# Altium schematic symbol library SamacSys.SchLib: 79 symbols
Pins are listed as number, name and electrical type; pins without a type are passive.

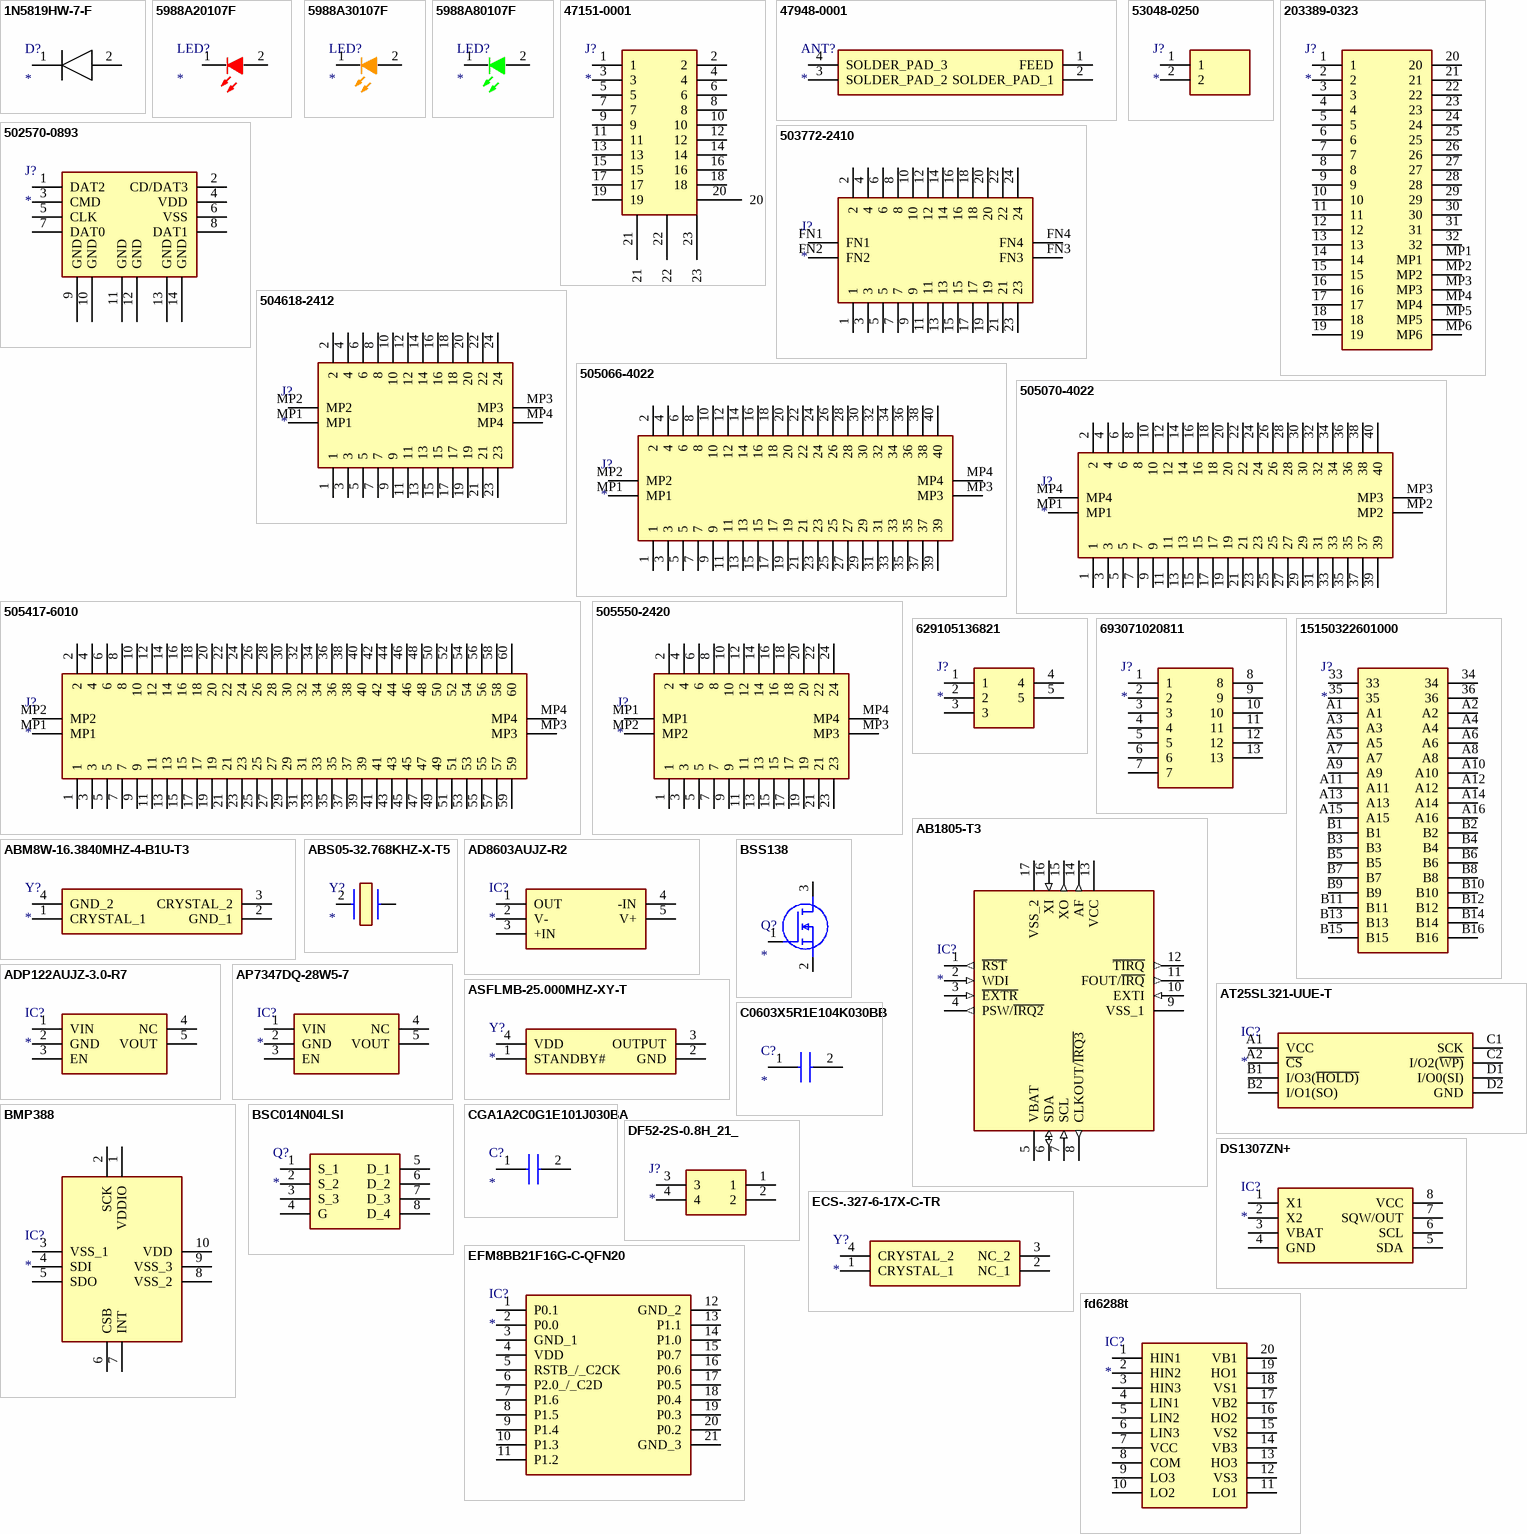
[diagram p0: symbols 1N5819HW-7-F to fd6288t]

## 1N5819HW-7-F
designator D?
Diode; Manufacturer_Name: Diodes Inc.; Manufacturer_Part_Number: 1N5819HW-7-F; Datasheet Link: https://componentsearchengine.com//1N5819HW-7-F.pdf; Height: 1.45mm; Mouser2 Part Number: 621-1N5819HW-F; Mouser2 Price/Stock: https://www.mouser.com/Search/Refine.aspx?Keyword=621-1N5819HW-F
footprint SOD3716X145N
pins: 1 K, 2 A

## 5988A20107F
designator LED?
LED; Manufacturer_Name: Dialight; Manufacturer_Part_Number: 5988A20107F; Datasheet Link: https://media.digikey.com/pdf/Data%20Sheets/Dialight%20PDFs/5988Ax010xF_Dwg.pdf; Height: 0.4mm; Mouser Part Number: 645-5988A20107F; Mouser Price/Stock: https://www.mouser.co.uk/ProductDetail/Dialight/5988A20107F?qs=7MVldsJ5Uax6FH5fsviNOw%3D%3D; Arrow Part Number: 5988A20107F; Arrow Price/Stock: https://www.arrow.com/en/products/5988a20107f/dialight
footprint 5988A20107F
pins: 1 K, 2 A

## 5988A30107F
designator LED?
LED; Manufacturer_Name: Dialight; Manufacturer_Part_Number: 5988A30107F; Datasheet Link: https://media.digikey.com/pdf/Data%20Sheets/Dialight%20PDFs/5988Ax010xF_Dwg.pdf; Height: 0.5mm; Mouser Part Number: 645-5988A30107F; Mouser Price/Stock: https://www.mouser.co.uk/ProductDetail/Dialight/5988A30107F?qs=7MVldsJ5UazU%2Fjc1iRSGcA%3D%3D; Arrow Part Number: 5988A30107F; Arrow Price/Stock: https://www.arrow.com/en/products/5988a30107f/dialight
footprint 5988A30107F
pins: 1 K, 2 A

## 5988A80107F
designator LED?
LED; Manufacturer_Name: Dialight; Manufacturer_Part_Number: 5988A80107F; Datasheet Link: https://media.digikey.com/pdf/Data%20Sheets/Dialight%20PDFs/5988Ax010xF_Dwg.pdf; Height: 0.4mm; Arrow Part Number: 5988A80107F; Arrow Price/Stock: https://www.arrow.com/en/products/5988a80107f/dialight
footprint 5988A80107F
pins: 1 K, 2 A

## 47151-0001
designator J?
Connector; Manufacturer_Name: Molex; Manufacturer_Part_Number: 47151-0001; Datasheet Link: https://componentsearchengine.com/Datasheets/1/47151-0001.pdf; Mouser Part Number: 538-47151-0001; Mouser Price/Stock: https://www.mouser.com/Search/Refine.aspx?Keyword=538-47151-0001
footprint 47151-0001
pins: 1, 2, 3, 4, 5, 6, 7, 8, 9, 10, 11, 12, 13, 14, 15, 16, 17, 18, 19, 20, 21, 22, 23

## 47948-0001
designator ANT?
Antenna; Manufacturer_Name: Molex; Manufacturer_Part_Number: 47948-0001; Datasheet Link: https://componentsearchengine.com//47948-0001.pdf; Height: 4mm; Mouser2 Part Number: 538-47948-0001; Mouser2 Price/Stock: https://www.mouser.com/Search/Refine.aspx?Keyword=538-47948-0001
footprint 479480001
pins: 1 FEED, 2 SOLDER_PAD_1, 3 SOLDER_PAD_2, 4 SOLDER_PAD_3

## 53048-0250
designator J?
Connector; Manufacturer_Name: Molex; Manufacturer_Part_Number: 53048-0250; Datasheet Link: https://www.molex.com/pdm_docs/sd/530480250_sd.pdf; Height: 3.5mm; Mouser Part Number: 538-53048-0250; Mouser Price/Stock: https://www.mouser.co.uk/ProductDetail/Molex/53048-0250?qs=0lSvoLzn4L%252BVLMv0bWniHQ%3D%3D
footprint 530480250
pins: 1, 2

## 203389-0323
designator J?
Connector; Manufacturer_Name: Molex; Manufacturer_Part_Number: 203389-0323; Datasheet Link: https://www.molex.com/pdm_docs/sd/2033890323_sd.pdf; Height: 0.68mm
footprint 2033890323
pins: 1, 2, 3, 4, 5, 6, 7, 8, 9, 10, 11, 12, 13, 14, 15, 16, 17, 18, 19, 20, 21, 22, 23, 24, 25, 26, 27, 28, 29, 30, 31, 32, MP1, MP2, MP3, MP4, MP5, MP6

## 502570-0893
designator J?
Connector; Manufacturer_Name: Molex; Manufacturer_Part_Number: 502570-0893; Datasheet Link: https://componentsearchengine.com/Datasheets/1/502570-0893.pdf; Mouser Part Number: 538-502570-0893; Mouser Price/Stock: https://www.mouser.com/Search/Refine.aspx?Keyword=538-502570-0893
footprint 502570-0893_1
pins: 1 DAT2, 2 CD/DAT3, 3 CMD, 4 VDD, 5 CLK, 6 VSS, 7 DAT0, 8 DAT1, 9 GND, 10 GND, 11 GND, 12 GND, 13 GND, 14 GND

## 503772-2410
designator J?
Connector; Manufacturer_Name: Molex; Manufacturer_Part_Number: 503772-2410; Datasheet Link: https://componentsearchengine.com/Datasheets/1/503772-2410.pdf; Height: 0.76mm; Mouser Part Number: 538-503772-2410; Mouser Price/Stock: https://www.mouser.co.uk/ProductDetail/Molex/503772-2410?qs=73RpG39PUGjaWG%2FPNpX86w%3D%3D
footprint 5037722410
pins: 1, 2, 3, 4, 5, 6, 7, 8, 9, 10, 11, 12, 13, 14, 15, 16, 17, 18, 19, 20, 21, 22, 23, 24, FN1, FN2, FN3, FN4

## 504618-2412
designator J?
Connector; Manufacturer_Name: Molex; Manufacturer_Part_Number: 504618-2412; Height: 0.6mm; Mouser Part Number: 538-504618-2412; Mouser Price/Stock: https://www.mouser.co.uk/ProductDetail/Molex/504618-2412?qs=byeeYqUIh0N7IfHXpjES7Q%3D%3D
footprint 5046182412
pins: 1, 2, 3, 4, 5, 6, 7, 8, 9, 10, 11, 12, 13, 14, 15, 16, 17, 18, 19, 20, 21, 22, 23, 24, MP1, MP2, MP3, MP4

## 505066-4022
designator J?
Connector; Manufacturer_Name: Molex; Manufacturer_Part_Number: 505066-4022; Datasheet Link: https://componentsearchengine.com/Datasheets/1/505066-4022.pdf; Height: 0.63mm; Mouser Part Number: 538-505066-4022; Mouser Price/Stock: https://www.mouser.co.uk/ProductDetail/Molex/505066-4022?qs=byeeYqUIh0MB9VJd4rgWeg%3D%3D
footprint 5050664022
pins: 1, 2, 3, 4, 5, 6, 7, 8, 9, 10, 11, 12, 13, 14, 15, 16, 17, 18, 19, 20, 21, 22, 23, 24, 25, 26, 27, 28, 29, 30, 31, 32, 33, 34, 35, 36, 37, 38, 39, 40, MP1, MP2, MP3, MP4

## 505070-4022
designator J?
Connector; Manufacturer_Name: Molex; Manufacturer_Part_Number: 505070-4022; Datasheet Link: https://componentsearchengine.com/Datasheets/1/505070-4022.pdf; Height: 0.53mm; Mouser Part Number: 538-505070-4022; Mouser Price/Stock: https://www.mouser.co.uk/ProductDetail/Molex/505070-4022?qs=byeeYqUIh0Nt60HVGOVJPw%3D%3D
footprint 5050704022
pins: 1, 2, 3, 4, 5, 6, 7, 8, 9, 10, 11, 12, 13, 14, 15, 16, 17, 18, 19, 20, 21, 22, 23, 24, 25, 26, 27, 28, 29, 30, 31, 32, 33, 34, 35, 36, 37, 38, 39, 40, MP1, MP2, MP3, MP4

## 505417-6010
designator J?
Connector; Manufacturer_Name: Molex; Manufacturer_Part_Number: 505417-6010; Datasheet Link: https://www.molex.com/pdm_docs/sd/5054176010_sd.pdf; Height: 0.9mm
footprint 5054176010
pins: 1, 2, 3, 4, 5, 6, 7, 8, 9, 10, 11, 12, 13, 14, 15, 16, 17, 18, 19, 20, 21, 22, 23, 24, 25, 26, 27, 28, 29, 30, 31, 32, 33, 34, 35, 36, 37, 38, 39, 40, 41, 42, 43, 44, 45, 46, 47, 48, 49, 50, 51, 52, 53, 54, 55, 56, 57, 58, 59, 60, MP1, MP2, MP3, MP4

## 505550-2420
designator J?
Connector; Manufacturer_Name: Molex; Manufacturer_Part_Number: 505550-2420; Datasheet Link: https://www.molex.com/pdm_docs/sd/5055502420_sd.pdf; Height: 0.76mm; Mouser Part Number: 538-505550-2420; Mouser Price/Stock: https://www.mouser.co.uk/ProductDetail/Molex/505550-2420?qs=0lSvoLzn4L%252Bx1ExQwOnayw%3D%3D
footprint 5055502420
pins: 1, 2, 3, 4, 5, 6, 7, 8, 9, 10, 11, 12, 13, 14, 15, 16, 17, 18, 19, 20, 21, 22, 23, 24, MP1, MP2, MP3, MP4

## 629105136821
designator J?
Connector; Manufacturer_Name: Wurth Elektronik; Manufacturer_Part_Number: 629105136821; Datasheet Link: https://componentsearchengine.com/Datasheets/1/629105136821.pdf; Mouser2 Part Number: 710-629105136821; Mouser2 Price/Stock: https://www.mouser.com/Search/Refine.aspx?Keyword=710-629105136821
footprint MICRO-USB(2.0-SMT-TYPE-B)
pins: 1, 2, 3, 4, 5

## 693071020811
designator J?
Connector; Manufacturer_Name: Wurth Elektronik; Manufacturer_Part_Number: 693071020811; Datasheet Link: https://katalog.we-online.com/em/datasheet/693071020811.pdf; Height: 1.85mm
footprint 693071020811
pins: 1, 2, 3, 4, 5, 6, 7, 8, 9, 10, 11, 12, 13

## 15150322601000
designator J?
Connector; Manufacturer_Name: HARTING; Manufacturer_Part_Number: 15150322601000; Datasheet Link: https://componentsearchengine.com/Datasheets/1/15150322601000.pdf; Height: 4.25mm; Mouser Part Number: 617-15150322601000; Mouser Price/Stock: https://www.mouser.com/Search/Refine.aspx?Keyword=617-15150322601000
footprint 15150322601000
pins: 33, 34, 35, 36, A1, A2, A3, A4, A5, A6, A7, A8, A9, A10, A11, A12, A13, A14, A15, A16, B1, B2, B3, B4, B5, B6, B7, B8, B9, B10, B11, B12, B13, B14, B15, B16

## AB1805-T3
designator IC?
Integrated Circuit; Manufacturer_Name: ABRACON; Manufacturer_Part_Number: AB1805-T3; Datasheet Link: https://componentsearchengine.com/Datasheets/2/AB1805-T3.pdf; Height: 0.9mm; Mouser Part Number: 815-AB1805-T3; Mouser Price/Stock: https://www.mouser.co.uk/ProductDetail/ABRACON/AB1805-T3?qs=CdqkW%252BVHFkEByOMIiZnWiA%3D%3D; Arrow Part Number: AB1805-T3; Arrow Price/Stock: https://www.arrow.com/en/products/ab1805-t3/abracon
footprint QFN50P300X300X90-17N
pins: 1 ~{RST} (out), 2 WDI (in), 3 ~{EXTR} (in), 4 PSW/~{IRQ2} (out), 5 VBAT (power), 6 SDA (io), 7 SCL (in), 8 CLKOUT/~{IRQ3} (out), 9 VSS_1 (power), 10 EXTI (in), 11 FOUT/~{IRQ} (out), 12 ~{TIRQ} (out), 13 VCC (power), 14 AF (out), 15 XO (out), 16 XI (in), 17 VSS_2 (power)

## ABM8W-16.3840MHZ-4-B1U-T3
designator Y?
Crystal or Oscillator; Manufacturer_Name: ABRACON; Manufacturer_Part_Number: ABM8W-16.3840MHZ-4-B1U-T3; Datasheet Link: https://componentsearchengine.com//ABM8W-16.3840MHZ-4-B1U-T3.pdf; Height: 0.75mm; Mouser2 Part Number: 815-8W16.38-4B1UT; Mouser2 Price/Stock: https://www.mouser.com/Search/Refine.aspx?Keyword=815-8W16.38-4B1UT
footprint ABM8W163840MHZ4B1UT3
pins: 1 CRYSTAL_1, 2 GND_1, 3 CRYSTAL_2, 4 GND_2

## ABS05-32.768KHZ-X-T5
designator Y?
Crystal or Oscillator; Manufacturer_Name: ABRACON; Manufacturer_Part_Number: ABS05-32.768KHZ-X-T5; Datasheet Link: https://abracon.com/Resonators/ABS05.pdf; Height: 0.5mm
footprint ABS0532768KHZXT5
pins: 2 CRYSTAL_2, ?1

## AD8603AUJZ-R2
designator IC?
Integrated Circuit; Manufacturer_Name: Analog Devices; Manufacturer_Part_Number: AD8603AUJZ-R2; Datasheet Link: http://componentsearchengine.com/Datasheets/3/AD8603AUJZ-R2.pdf; Height: 1mm
footprint SOT95P280X100-5N
pins: 1 OUT, 2 V-, 3 +IN, 4 -IN, 5 V+

## ADP122AUJZ-3.0-R7
designator IC?
Integrated Circuit; Manufacturer_Name: Analog Devices; Manufacturer_Part_Number: ADP122AUJZ-3.0-R7; Datasheet Link: https://componentsearchengine.com/Datasheets/2/ADP122AUJZ-3.0-R7.pdf; Height: 1mm
footprint SOT95P280X100-5N
pins: 1 VIN, 2 GND, 3 EN, 4 NC, 5 VOUT

## AP7347DQ-28W5-7
designator IC?
Integrated Circuit; Manufacturer_Name: Diodes Inc.; Manufacturer_Part_Number: AP7347DQ-28W5-7; Datasheet Link: https://www.diodes.com/assets/Datasheets/AP7347DQ.pdf; Height: 1.45mm
footprint SOT95P280X145-5N
pins: 1 VIN, 2 GND, 3 EN, 4 NC, 5 VOUT

## ASFLMB-25.000MHZ-XY-T
designator Y?
Crystal or Oscillator; Manufacturer_Name: ABRACON; Manufacturer_Part_Number: ASFLMB-25.000MHZ-XY-T; Datasheet Link: http://www.abracon.com/Oscillators/ASFLMB.pdf; Height: 0.9mm; Mouser Part Number: 815-ASFLMB-25-XY-T; Mouser Price/Stock: https://www.mouser.co.uk/ProductDetail/ABRACON/ASFLMB-25.000MHZ-XY-T?qs=CnD89xF1VSmONT2LProkzQ%3D%3D; Arrow Part Number: ASFLMB-25.000MHZ-XY-T; Arrow Price/Stock: https://www.arrow.com/en/products/asflmb-25.000mhz-xy-t/abracon
footprint ASFLMB25000MHZXYT
pins: 1 STANDBY#, 2 GND, 3 OUTPUT, 4 VDD

## AT25SL321-UUE-T
designator IC?
Integrated Circuit; Manufacturer_Name: Adesto Technologies; Manufacturer_Part_Number: AT25SL321-UUE-T; Datasheet Link: https://datasheet.datasheetarchive.com/originals/distributors/DKDS42/DSANUWW0041336.pdf; Height: 0.52mm; Mouser Part Number: 988-AT25SL321-UUE-T; Mouser Price/Stock: https://www.mouser.co.uk/ProductDetail/Adesto-Technologies/AT25SL321-UUE-T?qs=H7WEQPD31y2n%2FIwMeOKzPg%3D%3D; Arrow Part Number: AT25SL321-UUE-T; Arrow Price/Stock: https://www.arrow.com/en/products/at25sl321-uue-t/adesto-technologies-corporation-inc
footprint BGA8C50P2X4_155X228X52
pins: A1 VCC, A2 ~{CS}, B1 I/O3(~{HOLD)}, B2 I/O1(SO), C1 SCK, C2 I/O2(~{WP)}, D1 I/O0(SI), D2 GND

## BMP388
designator IC?
Integrated Circuit; Manufacturer_Name: Bosch Sensortec; Manufacturer_Part_Number: BMP388; Datasheet Link: https://datasheet.datasheetarchive.com/originals/distributors/DKDS-39/10253.pdf; Height: 0mm; Mouser Part Number: 262-BMP388; Mouser Price/Stock: https://www.mouser.co.uk/ProductDetail/Bosch-Sensortec/BMP388?qs=rrS6PyfT74eIcD5Rv1Kf7A%3D%3D; Arrow Part Number: BMP388; Arrow Price/Stock: https://www.arrow.com/en/products/bmp388/bosch?region=nac
footprint BMP388
pins: 1 VDDIO, 2 SCK, 3 VSS_1, 4 SDI, 5 SDO, 6 CSB, 7 INT, 8 VSS_2, 9 VSS_3, 10 VDD

## BSC014N04LSI
designator Q?
MOSFET (N-Channel); Manufacturer_Name: Infineon; Manufacturer_Part_Number: BSC014N04LSI; Datasheet Link: https://www.infineon.com/dgdl/Infineon-BSC014N04LSI-DS-v02_02-EN.pdf?fileId=db3a3043353fdc16013552fc8f274806; Mouser Part Number: 726-BSC014N04LSI; Mouser Price/Stock: https://www.mouser.co.uk/ProductDetail/Infineon-Technologies/BSC014N04LSI?qs=EUA%2Fg8wssK0pTQXNTFzAjQ%3D%3D
footprint BSC059N04LS6ATMA1
pins: 1 S_1, 2 S_2, 3 S_3, 4 G, 5 D_1, 6 D_2, 7 D_3, 8 D_4

## BSS138
designator Q?
MOSFET (N-Channel); Manufacturer_Name: ON Semiconductor; Manufacturer_Part_Number: BSS138; Datasheet Link: https://componentsearchengine.com//BSS138.pdf; Height: 1.2mm; Mouser2 Part Number: 512-BSS138; Mouser2 Price/Stock: https://www.mouser.com/Search/Refine.aspx?Keyword=512-BSS138
footprint SOT95P240X120-3N
pins: 1 G, 2 S, 3 D

## C0603X5R1E104K030BB
designator C?
Capacitor; Manufacturer_Name: TDK; Manufacturer_Part_Number: C0603X5R1E104K030BB; Datasheet Link: https://product.tdk.com/system/files/dam/doc/product/capacitor/ceramic/mlcc/catalog/mlcc_commercial_general_en.pdf; Height: 0.33mm; Mouser Part Number: 810-C0603X5R1E104KBB; Mouser Price/Stock: https://www.mouser.co.uk/ProductDetail/TDK/C0603X5R1E104K030BB?qs=6JAMGB%252BEdkw5r7LrYHn6NA%3D%3D; Arrow Part Number: C0603X5R1E104K030BB; Arrow Price/Stock: https://www.arrow.com/en/products/c0603x5r1e104k030bb/tdk?region=nac
footprint C0603_Commercial
pins: 1, 2

## CGA1A2C0G1E101J030BA
designator C?
Capacitor; Manufacturer_Name: TDK; Manufacturer_Part_Number: CGA1A2C0G1E101J030BA; Datasheet Link: https://product.tdk.com/system/files/dam/doc/product/capacitor/ceramic/mlcc/catalog/mlcc_automotive_general_en.pdf; Height: 0.33mm; Mouser Part Number: 810-CGA1A2C0G1E101J; Mouser Price/Stock: https://www.mouser.com/Search/Refine.aspx?Keyword=810-CGA1A2C0G1E101J; Arrow Part Number: CGA1A2C0G1E101J030BA; Arrow Price/Stock: https://www.arrow.com/en/products/cga1a2c0g1e101j030ba/tdk
footprint CAPC0603X33N
pins: 1, 2

## DF52-2S-0.8H_21_
designator J?
Connector; Manufacturer_Name: Hirose; Manufacturer_Part_Number: DF52-2S-0.8H(21); Datasheet Link: https://datasheet.datasheetarchive.com/originals/distributors/DKDS-30/591726.pdf; Height: 1mm
footprint DF522S08H21
pins: 1, 2, 3, 4

## DS1307ZN+
designator IC?
Integrated Circuit; Manufacturer_Name: Maxim Integrated; Manufacturer_Part_Number: DS1307ZN+; Datasheet Link: https://datasheets.maximintegrated.com/en/ds/DS1307.pdf; Height: 1.75mm; Mouser Part Number: 700-DS1307ZN; Mouser Price/Stock: https://www.mouser.co.uk/ProductDetail/Maxim-Integrated/DS1307ZN%2b?qs=0Y9aZN%252BMVCXLWsJnSCEZfw%3D%3D; Arrow Part Number: DS1307ZN+; Arrow Price/Stock: https://www.arrow.com/en/products/ds1307zn/maxim-integrated?region=nac
footprint SOIC127P600X175-8N
pins: 1 X1, 2 X2, 3 VBAT, 4 GND, 5 SDA, 6 SCL, 7 SQW/OUT, 8 VCC

## ECS-.327-6-17X-C-TR
designator Y?
Crystal or Oscillator; Manufacturer_Name: ECS; Manufacturer_Part_Number: ECS-.327-6-17X-C-TR; Height: 2.5mm
footprint ECS327617XCTR
pins: 1 CRYSTAL_1, 2 NC_1, 3 NC_2, 4 CRYSTAL_2

## EFM8BB21F16G-C-QFN20
designator IC?
Integrated Circuit; Manufacturer_Name: Silicon Labs; Manufacturer_Part_Number: EFM8BB21F16G-C-QFN20; Datasheet Link: http://www.silabs.com/documents/public/data-sheets/efm8bb2-datasheet.pdf; Height: 0.8mm; Mouser Part Number: 634-8BB21F16GCQFN20; Mouser Price/Stock: https://www.mouser.co.uk/ProductDetail/Silicon-Labs/EFM8BB21F16G-C-QFN20?qs=6viq6gG%252BWEuAESRIgdsUXg%3D%3D; Arrow Part Number: EFM8BB21F16G-C-QFN20; Arrow Price/Stock: https://www.arrow.com/en/products/efm8bb21f16g-c-qfn20/silicon-labs?region=nac
footprint CP2102NA02GQFN20
pins: 1 P0.1, 2 P0.0, 3 GND_1, 4 VDD, 5 RSTB_/_C2CK, 6 P2.0_/_C2D, 7 P1.6, 8 P1.5, 9 P1.4, 10 P1.3, 11 P1.2, 12 GND_2, 13 P1.1, 14 P1.0, 15 P0.7, 16 P0.6, 17 P0.5, 18 P0.4, 19 P0.3, 20 P0.2, 21 GND_3

## fd6288t
designator IC?
Integrated Circuit; Manufacturer_Name: Fortior Tech; Manufacturer_Part_Number: fd6288t; Datasheet Link: https://www.fortiortech.com/public/upload/files/20200715/4f791d67aecb9be876a83f2bb5d93763.pdf; Height: 1.2mm
footprint SOP65P640X120-20N
pins: 1 HIN1, 2 HIN2, 3 HIN3, 4 LIN1, 5 LIN2, 6 LIN3, 7 VCC, 8 COM, 9 LO3, 10 LO2, 11 LO1, 12 VS3, 13 HO3, 14 VB3, 15 VS2, 16 HO2, 17 VB2, 18 VS1, 19 HO1, 20 VB1

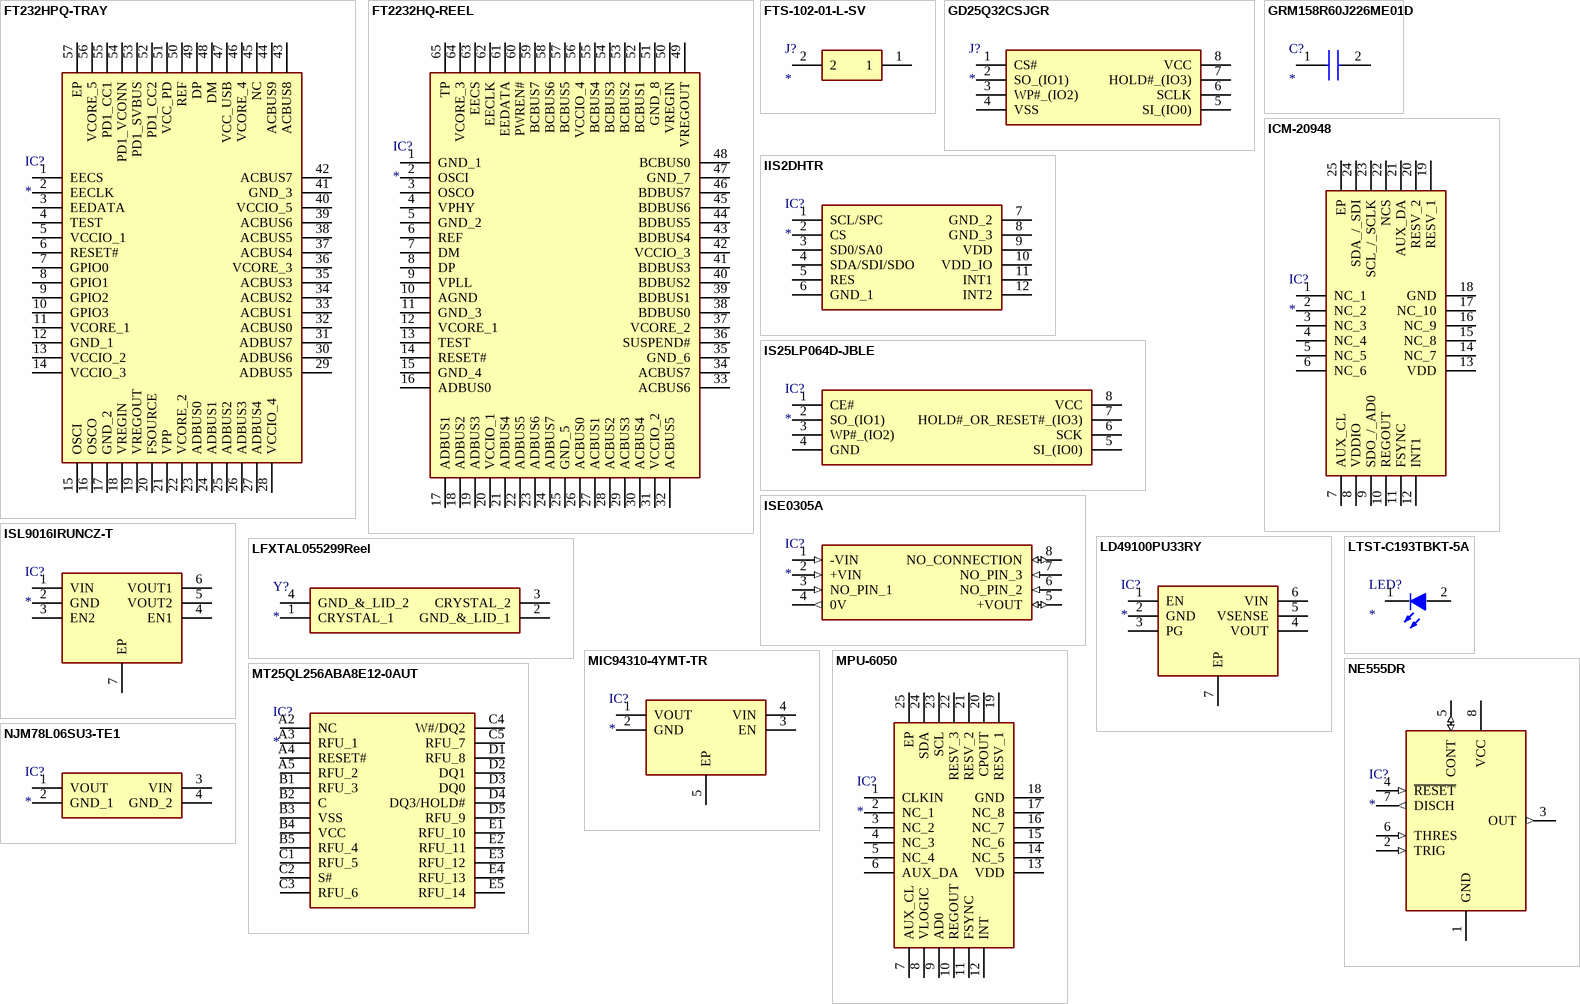
[diagram p1: symbols FT232HPQ-TRAY to NJM78L06SU3-TE1]

## FT232HPQ-TRAY
designator IC?
Integrated Circuit; Manufacturer_Name: FTDI Chip; Manufacturer_Part_Number: FT232HPQ-TRAY; Datasheet Link: https://www.ftdichip.com/Support/Documents/DataSheets/ICs/DS_FT233HP.pdf; Height: 0.9mm; Mouser Part Number: 895-FT232HPQ-TRAY; Mouser Price/Stock: https://www.mouser.co.uk/ProductDetail/FTDI/FT232HPQ-TRAY?qs=DRkmTr78QAQOR9QDUJT%2FRg%3D%3D
footprint QFN50P800X800X90-57N-D
pins: 1 EECS, 2 EECLK, 3 EEDATA, 4 TEST, 5 VCCIO_1, 6 RESET#, 7 GPIO0, 8 GPIO1, 9 GPIO2, 10 GPIO3, 11 VCORE_1, 12 GND_1, 13 VCCIO_2, 14 VCCIO_3, 15 OSCI, 16 OSCO, 17 GND_2, 18 VREGIN, 19 VREGOUT, 20 FSOURCE, 21 VPP, 22 VCORE_2, 23 ADBUS0, 24 ADBUS1, 25 ADBUS2, 26 ADBUS3, 27 ADBUS4, 28 VCCIO_4, 29 ADBUS5, 30 ADBUS6, 31 ADBUS7, 32 ACBUS0, 33 ACBUS1, 34 ACBUS2, 35 ACBUS3, 36 VCORE_3, 37 ACBUS4, 38 ACBUS5, 39 ACBUS6, 40 VCCIO_5, 41 GND_3, 42 ACBUS7, 43 ACBUS8, 44 ACBUS9, 45 NC, 46 VCORE_4, 47 VCC_USB, 48 DM, 49 DP, 50 REF, 51 VCC_PD, 52 PD1_CC2, 53 PD1_SVBUS, 54 PD1_VCONN, 55 PD1_CC1, 56 VCORE_5, 57 EP

## FT2232HQ-REEL
designator IC?
Integrated Circuit; Manufacturer_Name: FTDI Chip; Manufacturer_Part_Number: FT2232HQ-REEL; Datasheet Link: http://www.ftdichip.com/Support/Documents/DataSheets/ICs/DS_FT2232H.pdf; Height: 1mm; Mouser Part Number: 895-FT2232HQ; Mouser Price/Stock: https://www.mouser.co.uk/ProductDetail/FTDI/FT2232HQ-REEL?qs=D1%2FPMqvA103kEu75rXS7PA%3D%3D; Arrow Part Number: FT2232HQ-REEL; Arrow Price/Stock: https://www.arrow.com/en/products/ft2232hq-reel/ftdi-chip?region=nac
footprint QFN50P900X900X100-65N-D
pins: 1 GND_1, 2 OSCI, 3 OSCO, 4 VPHY, 5 GND_2, 6 REF, 7 DM, 8 DP, 9 VPLL, 10 AGND, 11 GND_3, 12 VCORE_1, 13 TEST, 14 RESET#, 15 GND_4, 16 ADBUS0, 17 ADBUS1, 18 ADBUS2, 19 ADBUS3, 20 VCCIO_1, 21 ADBUS4, 22 ADBUS5, 23 ADBUS6, 24 ADBUS7, 25 GND_5, 26 ACBUS0, 27 ACBUS1, 28 ACBUS2, 29 ACBUS3, 30 ACBUS4, 31 VCCIO_2, 32 ACBUS5, 33 ACBUS6, 34 ACBUS7, 35 GND_6, 36 SUSPEND#, 37 VCORE_2, 38 BDBUS0, 39 BDBUS1, 40 BDBUS2, 41 BDBUS3, 42 VCCIO_3, 43 BDBUS4, 44 BDBUS5, 45 BDBUS6, 46 BDBUS7, 47 GND_7, 48 BCBUS0, 49 VREGOUT, 50 VREGIN, 51 GND_8, 52 BCBUS1, 53 BCBUS2, 54 BCBUS3, 55 BCBUS4, 56 VCCIO_4, 57 BCBUS5, 58 BCBUS6, 59 BCBUS7, 60 PWREN#, 61 EEDATA, 62 EECLK, 63 EECS, 64 VCORE_3, 65 TP

## FTS-102-01-L-SV
designator J?
Connector; Manufacturer_Name: SAMTEC; Manufacturer_Part_Number: FTS-102-01-L-SV; Datasheet Link: http://suddendocs.samtec.com/prints/fts-1xx-xx-x-sx-mkt.pdf; Height: 4.58mm; Mouser Part Number: 200-FTS10201LSV; Mouser Price/Stock: https://www.mouser.co.uk/ProductDetail/Samtec/FTS-102-01-L-SV?qs=0lQeLiL1qyYdtNGZW4W4Qg%3D%3D; Arrow Part Number: FTS-102-01-L-SV; Arrow Price/Stock: https://www.arrow.com/en/products/fts-102-01-l-sv/samtec?region=nac
footprint FTS10201LSV
pins: 1, 2

## GD25Q32CSJGR
designator J?
Connector; Manufacturer_Name: GigaDevice; Manufacturer_Part_Number: GD25Q32CSJGR; Datasheet Link: https://www.mouser.in/datasheet/2/870/gd25q32c_v4.1_20200319-1668129.pdf; Height: 2.16mm
footprint SOIC127P790X216-8N
pins: 1 CS#, 2 SO_(IO1), 3 WP#_(IO2), 4 VSS, 5 SI_(IO0), 6 SCLK, 7 HOLD#_(IO3), 8 VCC

## GRM158R60J226ME01D
designator C?
Capacitor; Manufacturer_Name: Murata Electronics; Manufacturer_Part_Number: GRM158R60J226ME01D; Datasheet Link: https://search.murata.co.jp/Ceramy/image/img/A01X/G101/ENG/GRM158R60J226ME01-01A.pdf; Height: 0.8mm; Mouser Part Number: 81-GRM158R60J226ME1D; Mouser Price/Stock: https://www.mouser.co.uk/ProductDetail/Murata-Electronics/GRM158R60J226ME01D?qs=hd1VzrDQEGhRlVgN8RQ1oA%3D%3D; Arrow Part Number: GRM158R60J226ME01D; Arrow Price/Stock: https://www.arrow.com/en/products/grm158r60j226me01d/murata-manufacturing?region=nac
footprint CAPC1005X80N
pins: 1, 2

## ICM-20948
designator IC?
Integrated Circuit; Manufacturer_Name: TDK; Manufacturer_Part_Number: ICM-20948; Datasheet Link: https://product.tdk.com/system/files/dam/doc/product/sensor/mortion-inertial/imu/data_sheet/ds-000189-icm-20948-v1.3.pdf; Height: 1.05mm; Mouser Part Number: 410-ICM-20948; Mouser Price/Stock: https://www.mouser.co.uk/ProductDetail/TDK-InvenSense/ICM-20948?qs=u4fy%2FsgLU9OtGc31yF%2Friw%3D%3D; Arrow Part Number: ICM-20948; Arrow Price/Stock: https://www.arrow.com/en/products/icm-20948/invensense?region=nac
footprint QFN40P300X300X105-25N-D
pins: 1 NC_1, 2 NC_2, 3 NC_3, 4 NC_4, 5 NC_5, 6 NC_6, 7 AUX_CL, 8 VDDIO, 9 SDO_/_AD0, 10 REGOUT, 11 FSYNC, 12 INT1, 13 VDD, 14 NC_7, 15 NC_8, 16 NC_9, 17 NC_10, 18 GND, 19 RESV_1, 20 RESV_2, 21 AUX_DA, 22 NCS, 23 SCL_/_SCLK, 24 SDA_/_SDI, 25 EP

## IIS2DHTR
designator IC?
Integrated Circuit; Manufacturer_Name: STMicroelectronics; Manufacturer_Part_Number: IIS2DHTR; Datasheet Link: https://componentsearchengine.com/Datasheets/1/IIS2DHTR.pdf; Mouser Part Number: 511-IIS2DHTR; Mouser Price/Stock: https://www.mouser.com/Search/Refine.aspx?Keyword=511-IIS2DHTR
footprint LGA-12
pins: 1 SCL/SPC, 2 CS, 3 SD0/SA0, 4 SDA/SDI/SDO, 5 RES, 6 GND_1, 7 GND_2, 8 GND_3, 9 VDD, 10 VDD_IO, 11 INT1, 12 INT2

## IS25LP064D-JBLE
designator IC?
Integrated Circuit; Manufacturer_Name: Integrated Silicon Solution Inc.; Manufacturer_Part_Number: IS25LP064D-JBLE; Datasheet Link: https://componentsearchengine.com//IS25LP064D-JBLE.pdf; Height: 2.16mm; Mouser2 Part Number: 870-IS25LP064D-JBLE; Mouser2 Price/Stock: https://www.mouser.com/Search/Refine.aspx?Keyword=870-IS25LP064D-JBLE
footprint SOIC127P790X216-8N
pins: 1 CE#, 2 SO_(IO1), 3 WP#_(IO2), 4 GND, 5 SI_(IO0), 6 SCK, 7 HOLD#_OR_RESET#_(IO3), 8 VCC

## ISE0305A
designator IC?
Integrated Circuit; Manufacturer_Name: XP POWER; Manufacturer_Part_Number: ISE0305A; Datasheet Link: https://datasheet.datasheetarchive.com/originals/distributors/DKDS42/DSANUWW0054065.pdf; Height: 7.25mm
footprint SOP254P1120X725-8N
pins: 1 -VIN (in), 2 +VIN (in), 3 NO_PIN_1 (in), 4 0V (out), 5 +VOUT (io), 6 NO_PIN_2 (in), 7 NO_PIN_3 (in), 8 NO_CONNECTION (io)

## ISL9016IRUNCZ-T
designator IC?
Integrated Circuit; Manufacturer_Name: Renesas Electronics; Manufacturer_Part_Number: ISL9016IRUNCZ-T; Datasheet Link: https://www.renesas.com/en-us/www/doc/datasheet/isl9016.pdf; Height: 0.55mm
footprint SON50P160X160X55-7N
pins: 1 VIN, 2 GND, 3 EN2, 4 EN1, 5 VOUT2, 6 VOUT1, 7 EP

## LD49100PU33RY
designator IC?
Integrated Circuit; Manufacturer_Name: STMicroelectronics; Manufacturer_Part_Number: LD49100PU33RY; Datasheet Link: https://www.arrow.com/en/products/ld49100pu33ry/stmicroelectronics?region=nac; Height: 0.9mm
footprint SON95P300X300X90-7N-D
pins: 1 EN, 2 GND, 3 PG, 4 VOUT, 5 VSENSE, 6 VIN, 7 EP

## LFXTAL055299Reel
designator Y?
Crystal or Oscillator; Manufacturer_Name: IQD; Manufacturer_Part_Number: LFXTAL055299Reel; Datasheet Link: https://www.iqdfrequencyproducts.com/products/pn/LFXTAL055299Reel.pdf; Height: 0mm; Mouser Part Number: 449-LFXTAL055299REEL; Mouser Price/Stock: https://www.mouser.co.uk/ProductDetail/IQD/LFXTAL055299Reel?qs=e4%2FAndAAwgLFB7OH%2FoidCw%3D%3D; Arrow Part Number: LFXTAL055299REEL; Arrow Price/Stock: https://www.arrow.com/en/products/lfxtal055299reel/iqd-frequency-products
footprint LFXTAL059575Cutt
pins: 1 CRYSTAL_1, 2 GND_&_LID_1, 3 CRYSTAL_2, 4 GND_&_LID_2

## LTST-C193TBKT-5A
designator LED?
LED; Manufacturer_Name: Lite-On; Manufacturer_Part_Number: LTST-C193TBKT-5A; Datasheet Link: https://componentsearchengine.com/Datasheets/1/LTST-C193TBKT-5A.pdf; Height: 0.45mm; Mouser Part Number: 859-LTSTC193TBKT5A; Mouser Price/Stock: https://www.mouser.co.uk/ProductDetail/Lite-On/LTST-C193TBKT-5A?qs=xIkB7y1OTorvzzuuxuVkOA%3D%3D; Arrow Part Number: LTST-C193TBKT-5A; Arrow Price/Stock: https://www.arrow.com/en/products/ltst-c193tbkt-5a/lite-on-technology?region=nac
footprint LEDC1608X45N
pins: 1 K, 2 A

## MIC94310-4YMT-TR
designator IC?
Integrated Circuit; Manufacturer_Name: Microchip; Manufacturer_Part_Number: MIC94310-4YMT-TR; Datasheet Link: http://ww1.microchip.com/downloads/en/DeviceDoc/MIC94310-200mA-LDO-with-Ripple-Blocker-Technology-DS20006105A.pdf; Height: 0.6mm; Mouser Part Number: 998-MIC94310-4YMTTR; Mouser Price/Stock: https://www.mouser.co.uk/ProductDetail/Microchip-Technology-Atmel/MIC94310-4YMT-TR?qs=Y3Q3JoKAO1T7%252BiHVL7eOfA%3D%3D; Arrow Part Number: MIC94310-4YMT-TR; Arrow Price/Stock: https://www.arrow.com/en/products/mic94310-4ymt-tr/microchip-technology?region=nac
footprint SON50P160X120X60-5N-D
pins: 1 VOUT, 2 GND, 3 EN, 4 VIN, 5 EP

## MPU-6050
designator IC?
Integrated Circuit; Manufacturer_Name: TDK; Datasheet Link: https://product.tdk.com/system/files/dam/doc/product/sensor/mortion-inertial/imu/data_sheet/mpu-6000-datasheet1.pdf; Height: 0.95mm; Manufacturer_Part_Number: MPU-6050
footprint MPU6050
pins: 1 CLKIN, 2 NC_1, 3 NC_2, 4 NC_3, 5 NC_4, 6 AUX_DA, 7 AUX_CL, 8 VLOGIC, 9 AD0, 10 REGOUT, 11 FSYNC, 12 INT, 13 VDD, 14 NC_5, 15 NC_6, 16 NC_7, 17 NC_8, 18 GND, 19 RESV_1, 20 CPOUT, 21 RESV_2, 22 RESV_3, 23 SCL, 24 SDA, 25 EP

## MT25QL256ABA8E12-0AUT
designator IC?
Integrated Circuit; Manufacturer_Name: Micron; Manufacturer_Part_Number: MT25QL256ABA8E12-0AUT; Datasheet Link: https://www.micron.com/parts/nor-flash/serial-nor-flash/mt25ql256aba8e12-0aut; Height: 1.2mm; Mouser Part Number: 340-357969-TRAY; Mouser Price/Stock: https://www.mouser.co.uk/ProductDetail/Micron/MT25QL256ABA8E12-0AUT?qs=0lSvoLzn4L%2FXLK2sXHwm2Q%3D%3D; Arrow Part Number: MT25QL256ABA8E12-0AUT; Arrow Price/Stock: https://www.arrow.com/en/products/mt25ql256aba8e12-0aut/micron-technology
footprint BGA24C100P5X5_600X800X120
pins: A2 NC, A3 RFU_1, A4 RESET#, A5 RFU_2, B1 RFU_3, B2 C, B3 VSS, B4 VCC, B5 RFU_4, C1 RFU_5, C2 S#, C3 RFU_6, C4 W#/DQ2, C5 RFU_7, D1 RFU_8, D2 DQ1, D3 DQ0, D4 DQ3/HOLD#, D5 RFU_9, E1 RFU_10, E2 RFU_11, E3 RFU_12, E4 RFU_13, E5 RFU_14

## NE555DR
designator IC?
Integrated Circuit; Manufacturer_Name: Texas Instruments; Manufacturer_Part_Number: NE555DR; Datasheet Link: http://www.ti.com/lit/ds/symlink/ne555.pdf; Height: 1.75mm; Mouser Part Number: 595-NE555DR; Mouser Price/Stock: https://www.mouser.com/Search/Refine.aspx?Keyword=595-NE555DR; RS Part Number: 1218414; RS Price/Stock: http://uk.rs-online.com/web/p/products/1218414
footprint SOIC127P600X175-8N
pins: 1 GND (power), 2 TRIG (in), 3 OUT (out), 4 ~{RESET} (in), 5 CONT (io), 6 THRES (in), 7 DISCH (out), 8 VCC (power)

## NJM78L06SU3-TE1
designator IC?
Integrated Circuit; Manufacturer_Name: Nisshinbo; Manufacturer_Part_Number: NJM78L06SU3-TE1; Datasheet Link: https://www.nisshinbo-microdevices.co.jp/en/pdf/datasheet/NJM78L00S_E.pdf; Height: 1.65mm; Mouser Part Number: 513-NJM78L06SU3-TE1; Mouser Price/Stock: https://www.mouser.co.uk/ProductDetail/Nisshinbo/NJM78L06SU3-TE1?qs=sPbYRqrBIVnRO9h8LSWjLg%3D%3D
footprint NJM78L06SU3TE1
pins: 1 VOUT, 2 GND_1, 3 VIN, 4 GND_2

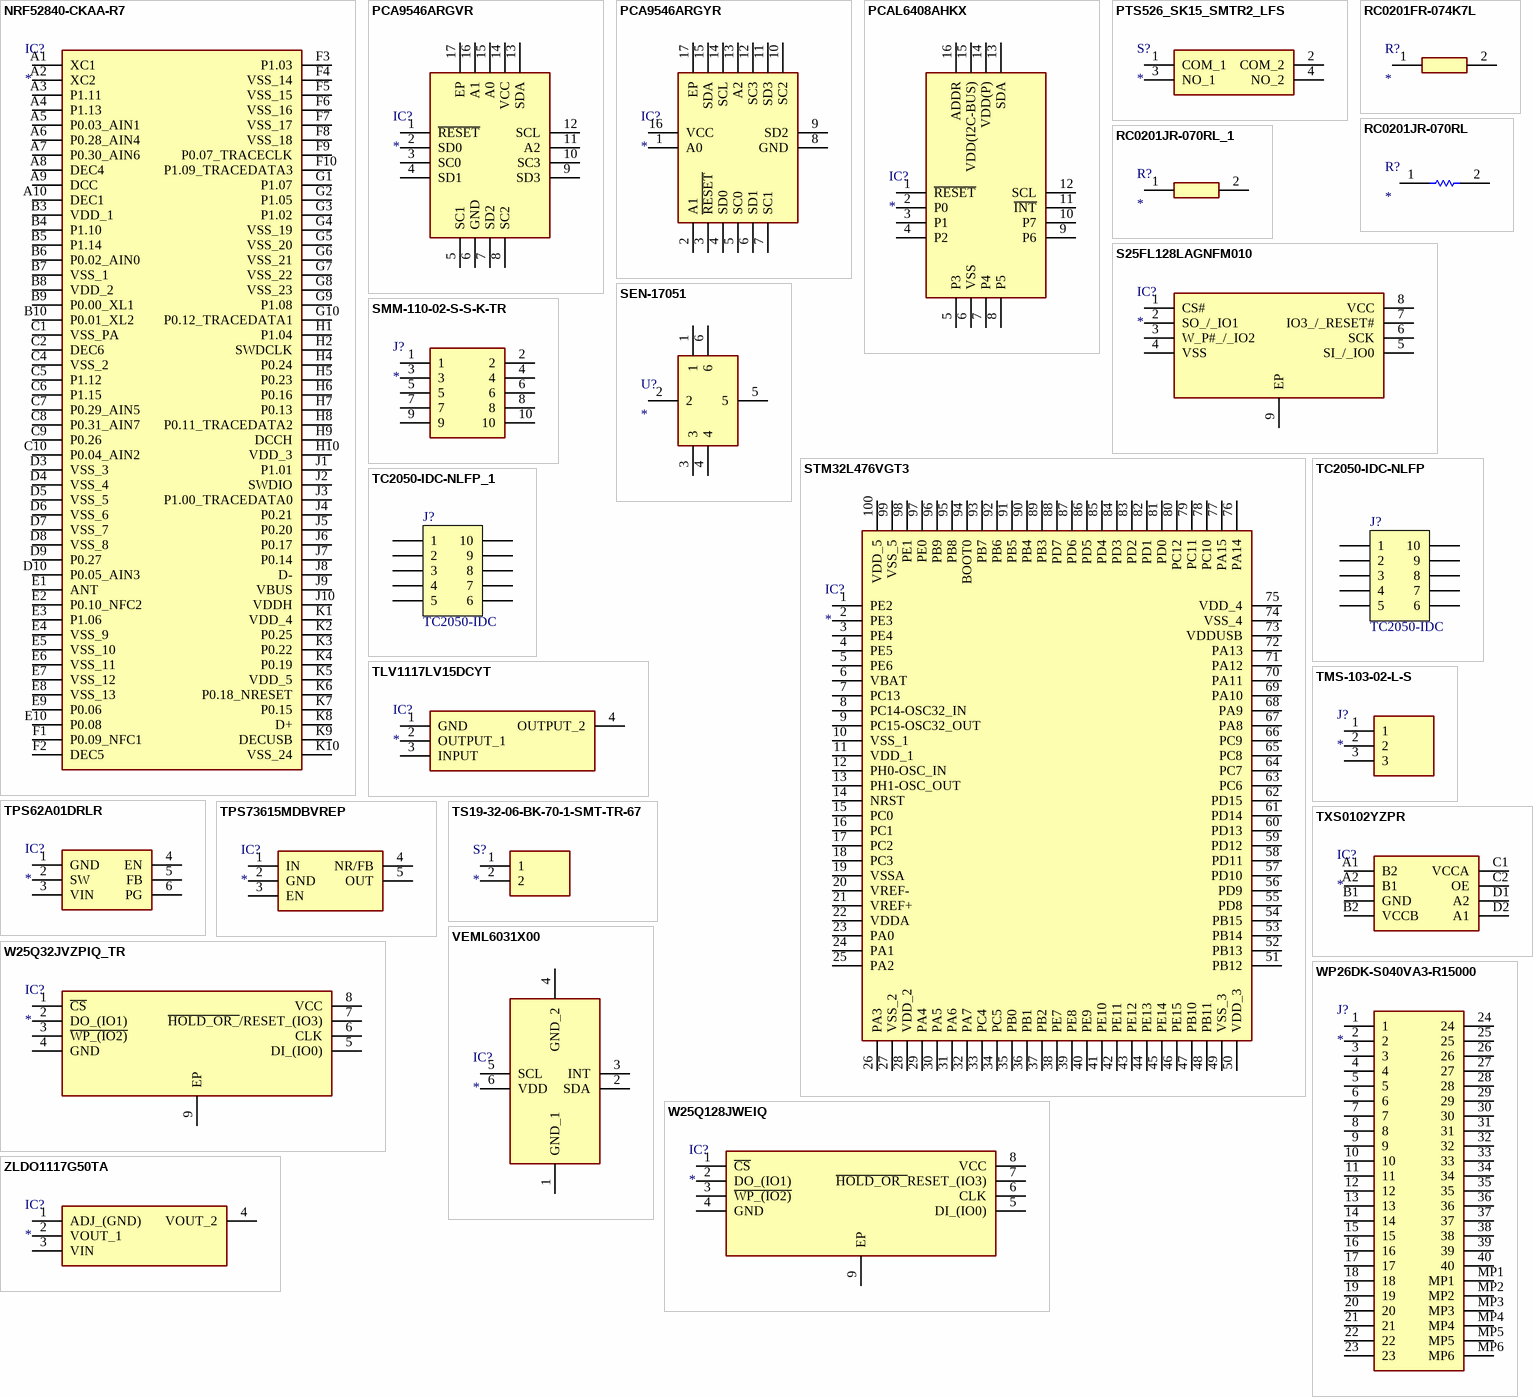
[diagram p2: symbols NRF52840-CKAA-R7 to ZLDO1117G50TA]

## NRF52840-CKAA-R7
designator IC?
Integrated Circuit; Manufacturer_Name: Nordic Semiconductor; Manufacturer_Part_Number: NRF52840-CKAA-R7; Datasheet Link: https://eu.mouser.com/datasheet/2/297/nRF52840_PS_v1.1-1623672.pdf; Height: 0.514mm; Mouser Part Number: 949-NRF52840-CKAA-R7; Mouser Price/Stock: https://www.mouser.co.uk/ProductDetail/Nordic-Semiconductor/nRF52840-CKAA-R7?qs=PzGy0jfpSMsVgeUHdE1s2g%3D%3D; Arrow Part Number: NRF52840-CKAA-R7; Arrow Price/Stock: https://www.arrow.com/en/products/nrf52840-ckaa-r7/nordic-semiconductor?region=nac
footprint BGA94C35P10X10_354X361X51
pins: A1 XC1, A2 XC2, A3 P1.11, A4 P1.13, A5 P0.03_AIN1, A6 P0.28_AIN4, A7 P0.30_AIN6, A8 DEC4, A9 DCC, A10 DEC1, B3 VDD_1, B4 P1.10, B5 P1.14, B6 P0.02_AIN0, B7 VSS_1, B8 VDD_2, B9 P0.00_XL1, B10 P0.01_XL2, C1 VSS_PA, C2 DEC6, C4 VSS_2, C5 P1.12, C6 P1.15, C7 P0.29_AIN5, C8 P0.31_AIN7, C9 P0.26, C10 P0.04_AIN2, D3 VSS_3, D4 VSS_4, D5 VSS_5, D6 VSS_6, D7 VSS_7, D8 VSS_8, D9 P0.27, D10 P0.05_AIN3, E1 ANT, E2 P0.10_NFC2, E3 P1.06, E4 VSS_9, E5 VSS_10, E6 VSS_11, E7 VSS_12, E8 VSS_13, E9 P0.06, E10 P0.08, F1 P0.09_NFC1, F2 DEC5, F3 P1.03, F4 VSS_14, F5 VSS_15, F6 VSS_16, F7 VSS_17, F8 VSS_18, F9 P0.07_TRACECLK, F10 P1.09_TRACEDATA3, G1 P1.07, G2 P1.05, G3 P1.02, G4 VSS_19, G5 VSS_20, G6 VSS_21, G7 VSS_22, G8 VSS_23, G9 P1.08, G10 P0.12_TRACEDATA1, H1 P1.04, H2 SWDCLK, H4 P0.24, H5 P0.23, H6 P0.16, H7 P0.13, H8 P0.11_TRACEDATA2, H9 DCCH, H10 VDD_3, J1 P1.01, J2 SWDIO, J3 P1.00_TRACEDATA0, J4 P0.21, J5 P0.20, J6 P0.17, J7 P0.14, J8 D-, J9 VBUS, J10 VDDH, K1 VDD_4, K2 P0.25, K3 P0.22, K4 P0.19, K5 VDD_5, K6 P0.18_NRESET, K7 P0.15, K8 D+, K9 DECUSB, K10 VSS_24

## PCA9546ARGVR
designator IC?
Integrated Circuit; Manufacturer_Name: Texas Instruments; Manufacturer_Part_Number: PCA9546ARGVR; Datasheet Link: http://www.ti.com/lit/gpn/pca9546a; Height: 1mm; Mouser Part Number: 595-PCA9546ARGVR; Mouser Price/Stock: https://www.mouser.co.uk/ProductDetail/Texas-Instruments/PCA9546ARGVR?qs=iSMark9AYDVOIxSBd0ujBA%3D%3D; Arrow Part Number: PCA9546ARGVR; Arrow Price/Stock: https://www.arrow.com/en/products/pca9546argvr/texas-instruments?region=nac
footprint QFN65P400X400X100-17N-D
pins: 1 ~{RESET}, 2 SD0, 3 SC0, 4 SD1, 5 SC1, 6 GND, 7 SD2, 8 SC2, 9 SD3, 10 SC3, 11 A2, 12 SCL, 13 SDA, 14 VCC, 15 A0, 16 A1, 17 EP

## PCA9546ARGYR
designator IC?
Integrated Circuit; Manufacturer_Name: Texas Instruments; Manufacturer_Part_Number: PCA9546ARGYR; Datasheet Link: http://www.ti.com/lit/ds/symlink/pca9546a.pdf; Height: 1mm; Mouser Part Number: 595-PCA9546ARGYR; Mouser Price/Stock: https://www.mouser.co.uk/ProductDetail/Texas-Instruments/PCA9546ARGYR?qs=wgAEGBTxy7n4yI5LDsjQfA%3D%3D; Arrow Part Number: PCA9546ARGYR; Arrow Price/Stock: https://www.arrow.com/en/products/pca9546argyr/texas-instruments?region=nac
footprint SN74AVC4T245RGYR
pins: 1 A0, 2 A1, 3 ~{RESET}, 4 SD0, 5 SC0, 6 SD1, 7 SC1, 8 GND, 9 SD2, 10 SC2, 11 SD3, 12 SC3, 13 A2, 14 SCL, 15 SDA, 16 VCC, 17 EP

## PCAL6408AHKX
designator IC?
Integrated Circuit; Manufacturer_Name: NXP; Manufacturer_Part_Number: PCAL6408AHKX; Datasheet Link: http://www.nxp.com/docs/en/data-sheet/PCAL6408A.pdf; Height: 0.5mm; Mouser Part Number: 771-PCAL6408AHKX; Mouser Price/Stock: https://www.mouser.co.uk/ProductDetail/NXP-Semiconductors/PCAL6408AHKX?qs=1sbE9T7hb3avfrt9wSBK1Q%3D%3D; Arrow Part Number: PCAL6408AHKX; Arrow Price/Stock: https://www.arrow.com/en/products/pcal6408ahkx/nxp-semiconductors?region=nac
footprint QFN40P180X260X50-16N
pins: 1 ~{RESET}, 2 P0, 3 P1, 4 P2, 5 P3, 6 VSS, 7 P4, 8 P5, 9 P6, 10 P7, 11 ~{INT}, 12 SCL, 13 SDA, 14 VDD(P), 15 VDD(I2C-BUS), 16 ADDR

## PTS526_SK15_SMTR2_LFS
designator S?
Switch; Manufacturer_Name: C & K COMPONENTS; Manufacturer_Part_Number: PTS526 SK15 SMTR2 LFS; Datasheet Link: https://www.ckswitches.com/media/2780/pts526.pdf; Height: 1.65mm; Mouser Part Number: 611-PTS526SK15SMR2L; Mouser Price/Stock: https://www.mouser.co.uk/ProductDetail/CK/PTS526-SK15-SMTR2-LFS?qs=UXgszm6BlbF5Ezp94JAQtw%3D%3D; Arrow Part Number: PTS526 SK15 SMTR2 LFS; Arrow Price/Stock: https://www.arrow.com/en/products/pts526-sk15-smtr2-lfs/ck?region=nac
footprint PTS526SK15SMTR2LFS
pins: 1 COM_1, 2 COM_2, 3 NO_1, 4 NO_2

## RC0201FR-074K7L
designator R?
Resistor; Manufacturer_Name: YAGEO; Manufacturer_Part_Number: RC0201FR-074K7L; Datasheet Link: https://www.yageo.com/upload/media/product/productsearch/datasheet/rchip/PYu-RC_Group_51_RoHS_L_12.pdf; Height: 0.26mm; Arrow Part Number: RC0201FR-074K7L; Arrow Price/Stock: https://www.arrow.com/en/products/rc0201fr-074k7l/yageo?region=nac
footprint RESC0603X26N
pins: 1, 2

## RC0201JR-070RL
designator R?
Resistor; Manufacturer_Name: YAGEO; Manufacturer_Part_Number: RC0201JR-070RL; Datasheet Link: https://componentsearchengine.com/Datasheets/2/RC0201JR-070RL.pdf; Height: 0.26mm; Mouser Part Number: 603-RC0201JR-070RL; Mouser Price/Stock: https://www.mouser.co.uk/ProductDetail/YAGEO/RC0201JR-070RL?qs=sxZXDnvRBEj0LpYU4w5Rpw%3D%3D; Arrow Part Number: RC0201JR-070RL; Arrow Price/Stock: https://www.arrow.com/en/products/rc0201jr-070rl/yageo?region=europe
pins: 1, 2

## RC0201JR-070RL_1
designator R?
Resistor; Manufacturer_Name: YAGEO; Manufacturer_Part_Number: RC0201JR-070RL; Datasheet Link: https://componentsearchengine.com/Datasheets/2/RC0201JR-070RL.pdf; Height: 0.26mm; Mouser Part Number: 603-RC0201JR-070RL; Mouser Price/Stock: https://www.mouser.co.uk/ProductDetail/YAGEO/RC0201JR-070RL?qs=sxZXDnvRBEj0LpYU4w5Rpw%3D%3D; Arrow Part Number: RC0201JR-070RL; Arrow Price/Stock: https://www.arrow.com/en/products/rc0201jr-070rl/yageo?region=europe
footprint RESC0603X26N
pins: 1, 2

## S25FL128LAGNFM010
designator IC?
Integrated Circuit; Manufacturer_Name: Cypress Semiconductor; Manufacturer_Part_Number: S25FL128LAGNFM010; Datasheet Link: https://www.arrow.com/en/products/s25fl128lagnfm010/cypress-semiconductor; Height: 0.8mm; Mouser Part Number: 727-S25FL128LAGNF010; Mouser Price/Stock: https://www.mouser.co.uk/ProductDetail/Cypress-Semiconductor/S25FL128LAGNFM010?qs=gt1LBUVyoHln6qHqkM%252Bziw%3D%3D; Arrow Part Number: S25FL128LAGNFM010; Arrow Price/Stock: https://www.arrow.com/en/products/s25fl128lagnfm010/cypress-semiconductor
footprint SON127P600X500X80-9N-D
pins: 1 CS#, 2 SO_/_IO1, 3 W_P#_/_IO2, 4 VSS, 5 SI_/_IO0, 6 SCK, 7 IO3_/_RESET#, 8 VCC, 9 EP

## SEN-17051
designator U?
Undefined or Miscellaneous; Manufacturer_Name: SparkFun; Manufacturer_Part_Number: SEN-17051; Height: 20mm
footprint SEN17049
pins: 1, 2, 3, 4, 5, 6

## SMM-110-02-S-S-K-TR
designator J?
Connector; Manufacturer_Name: SAMTEC; Manufacturer_Part_Number: SMM-110-02-S-S-K-TR; Datasheet Link: http://suddendocs.samtec.com/prints/smm-1xx-xx-xx-s-xx-xx-x-xx-mkt.pdf; Height: 3.56mm; Mouser Part Number: 200-SMM11002SSKTR; Mouser Price/Stock: https://www.mouser.co.uk/ProductDetail/Samtec/SMM-110-02-S-S-K-TR?qs=DJA8%252BIqD56UA1xv8cVdWsQ%3D%3D; Arrow Part Number: SMM-110-02-S-S-K-TR; Arrow Price/Stock: https://www.arrow.com/en/products/smm-110-02-s-s-k-tr/samtec
footprint SMM11002SSKTR
pins: 1, 2, 3, 4, 5, 6, 7, 8, 9, 10

## STM32L476VGT3
designator IC?
Integrated Circuit; Manufacturer_Name: STMicroelectronics; Manufacturer_Part_Number: STM32L476VGT3; Datasheet Link: https://componentsearchengine.com//STM32L476VGT3.pdf; Height: 1.6mm; Mouser2 Part Number: 511-STM32L476VGT3; Mouser2 Price/Stock: https://www.mouser.com/Search/Refine.aspx?Keyword=511-STM32L476VGT3
footprint QFP50P1600X1600X160-100N
pins: 1 PE2, 2 PE3, 3 PE4, 4 PE5, 5 PE6, 6 VBAT, 7 PC13, 8 PC14-OSC32_IN, 9 PC15-OSC32_OUT, 10 VSS_1, 11 VDD_1, 12 PH0-OSC_IN, 13 PH1-OSC_OUT, 14 NRST, 15 PC0, 16 PC1, 17 PC2, 18 PC3, 19 VSSA, 20 VREF-, 21 VREF+, 22 VDDA, 23 PA0, 24 PA1, 25 PA2, 26 PA3, 27 VSS_2, 28 VDD_2, 29 PA4, 30 PA5, 31 PA6, 32 PA7, 33 PC4, 34 PC5, 35 PB0, 36 PB1, 37 PB2, 38 PE7, 39 PE8, 40 PE9, 41 PE10, 42 PE11, 43 PE12, 44 PE13, 45 PE14, 46 PE15, 47 PB10, 48 PB11, 49 VSS_3, 50 VDD_3, 51 PB12, 52 PB13, 53 PB14, 54 PB15, 55 PD8, 56 PD9, 57 PD10, 58 PD11, 59 PD12, 60 PD13, 61 PD14, 62 PD15, 63 PC6, 64 PC7, 65 PC8, 66 PC9, 67 PA8, 68 PA9, 69 PA10, 70 PA11, 71 PA12, 72 PA13, 73 VDDUSB, 74 VSS_4, 75 VDD_4, 76 PA14, 77 PA15, 78 PC10, 79 PC11, 80 PC12, 81 PD0, 82 PD1, 83 PD2, 84 PD3, 85 PD4, 86 PD5, 87 PD6, 88 PD7, 89 PB3, 90 PB4, 91 PB5, 92 PB6, 93 PB7, 94 BOOT0, 95 PB8, 96 PB9, 97 PE0, 98 PE1, 99 VSS_5, 100 VDD_5

## TC2050-IDC-NLFP
designator J?, comment TC2050-IDC  (no BOM)
CBL PLUG-OF-NAILS 10-PIN; Part Number: TC2050-IDC-NLFP; Manufacturer: Tag-Connect LLC; Artikkelnr Noca: N.A.; Pad Count: 10; Manufacturer Part Number: TC2050-IDC-NLFP; LatestRevisionDate: 2012-11-21; Published: 2012-11-21; Value: TC2050-IDC; Footprint Doc: TC2050-IDC-NLFP; ComponentLink1Description: Datasheet; ComponentLink1URL: N.A.; ComponentLink2Description: Supplier link; ComponentLink2URL: N.A.; HelpURL: http://www.tag-connect.com/Materials/TC2050-IDC%20Datasheet.pdf; Part number IPS: N.A.; Supplier 1: Digi-Key; Supplier Part Number 1: TC2050-IDC-NL-ND; Supplier 2: N.A.; Supplier Part Number 2: N.A.; PartId: 100500463; Component Class: Connectors; Author: rsk; Note: N.A.; Part number Norautron: N.A.
footprint TC2050-IDC-NLFP
pins: 1, 2, 3, 4, 5, 6, 7, 8, 9, 10

## TC2050-IDC-NLFP_1
designator J?, comment TC2050-IDC  (no BOM)
CBL PLUG-OF-NAILS 10-PIN; Part Number: TC2050-IDC-NLFP; Manufacturer: Tag-Connect LLC; Artikkelnr Noca: N.A.; Pad Count: 10; Manufacturer Part Number: TC2050-IDC-NLFP; LatestRevisionDate: 2012-11-21; Published: 2012-11-21; Value: TC2050-IDC; Footprint Doc: TC2050-IDC-NLFP; ComponentLink1Description: Datasheet; ComponentLink1URL: N.A.; ComponentLink2Description: Supplier link; ComponentLink2URL: N.A.; HelpURL: http://www.tag-connect.com/Materials/TC2050-IDC%20Datasheet.pdf; Part number IPS: N.A.; Supplier 1: Digi-Key; Supplier Part Number 1: TC2050-IDC-NL-ND; Supplier 2: N.A.; Supplier Part Number 2: N.A.; PartId: 100500463; Component Class: Connectors; Author: rsk; Note: N.A.; Part number Norautron: N.A.
footprint TC2050-IDC-NLFP
pins: 1, 2, 3, 4, 5, 6, 7, 8, 9, 10

## TLV1117LV15DCYT
designator IC?
Integrated Circuit; Manufacturer_Name: Texas Instruments; Manufacturer_Part_Number: TLV1117LV15DCYT; Datasheet Link: http://www.ti.com/lit/gpn/TLV1117LV; Height: 1.8mm
footprint SOT230P700X180-4N
pins: 1 GND, 2 OUTPUT_1, 3 INPUT, 4 OUTPUT_2

## TMS-103-02-L-S
designator J?
Connector; Manufacturer_Name: SAMTEC; Manufacturer_Part_Number: TMS-103-02-L-S; Datasheet Link: http://suddendocs.samtec.com/prints/tms-1xx-xx-xx-x-xx-xxx-mkt.pdf; Mouser Part Number: 200-TMS10302LS; Mouser Price/Stock: https://www.mouser.co.uk/ProductDetail/Samtec/TMS-103-02-L-S?qs=%252BZP6%2F%252BtExtAlVUxM9LWXdQ%3D%3D; Arrow Part Number: TMS-103-02-L-S; Arrow Price/Stock: https://www.arrow.com/en/products/tms-103-02-l-s/samtec
footprint TMS-103-YY-XX-S
pins: 1, 2, 3

## TPS62A01DRLR
designator IC?
Integrated Circuit; Manufacturer_Name: Texas Instruments; Manufacturer_Part_Number: TPS62A01DRLR; Description: Switching Voltage Regulators 2.5-V to 5.5-V input; Datasheet Link: https://www.arrow.com/en/products/tps62a01drlr/texas-instruments?region=nac; Height: 0.6mm; Mouser Part Number: 595-TPS62A01DRLR; Mouser Price/Stock: https://www.mouser.co.uk/ProductDetail/Texas-Instruments/TPS62A01DRLR?qs=Znm5pLBrcALcIfh%2FYrJRtw%3D%3D; Arrow Part Number: TPS62A01DRLR; Arrow Price/Stock: https://www.arrow.com/en/products/tps62a01drlr/texas-instruments?region=nac
footprint SOTFL50P160X60-6N
pins: 1 GND, 2 SW, 3 VIN, 4 EN, 5 FB, 6 PG

## TPS73615MDBVREP
designator IC?
Integrated Circuit; Manufacturer_Name: Texas Instruments; Manufacturer_Part_Number: TPS73615MDBVREP; Datasheet Link: http://www.ti.com/lit/gpn/tps73615-ep; Height: 1.45mm; Mouser Part Number: 595-TPS73615MDBVREP; Mouser Price/Stock: https://www.mouser.co.uk/ProductDetail/Texas-Instruments/TPS73615MDBVREP?qs=7kv20MEVUli7QsTHw8yJpg%3D%3D; Arrow Part Number: TPS73615MDBVREP; Arrow Price/Stock: https://www.arrow.com/en/products/tps73615mdbvrep/texas-instruments
footprint SOT95P280X145-5N
pins: 1 IN, 2 GND, 3 EN, 4 NR/FB, 5 OUT

## TS19-32-06-BK-70-1-SMT-TR-67
designator S?
Switch; Manufacturer_Name: CUI Devices; Manufacturer_Part_Number: TS19-32-06-BK-70-1-SMT-TR-67; Datasheet Link: https://www.cuidevices.com/product/resource/ts19.pdf; Height: 0.65mm; Mouser Part Number: 179-TS193206BK701SM; Mouser Price/Stock: https://www.mouser.co.uk/ProductDetail/CUI-Devices/TS19-32-06-BK-70-1-SMT-TR-67?qs=tlsG%2FOw5FFj0aJkgA5InKg%3D%3D
footprint TS193206BK701SMTTR67
pins: 1, 2

## TXS0102YZPR
designator IC?
Integrated Circuit; Manufacturer_Name: Texas Instruments; Manufacturer_Part_Number: TXS0102YZPR; Datasheet Link: http://componentsearchengine.com/Datasheets/3/TXS0102YZPR.pdf; Height: 0.5mm; Mouser Part Number: 595-TXS0102YZPR; Mouser Price/Stock: https://www.mouser.co.uk/ProductDetail/Texas-Instruments/TXS0102YZPR?qs=0OHPnBYoB%2FnEzbbqlIZg1Q%3D%3D; Arrow Part Number: TXS0102YZPR; Arrow Price/Stock: https://www.arrow.com/en/products/txs0102yzpr/texas-instruments?region=nac
footprint BGA8C50P2X4_89X189X50
pins: A1 B2, A2 B1, B1 GND, B2 VCCB, C1 VCCA, C2 OE, D1 A2, D2 A1

## VEML6031X00
designator IC?
Integrated Circuit; Manufacturer_Name: Vishay; Manufacturer_Part_Number: VEML6031X00; Datasheet Link: https://www.vishay.com/docs/80007/veml6031x00.pdf; Height: 0.7mm
footprint VEML6031X00
pins: 1 GND_1, 2 SDA, 3 INT, 4 GND_2, 5 SCL, 6 VDD

## W25Q32JVZPIQ_TR
designator IC?
Integrated Circuit; Manufacturer_Name: Winbond; Manufacturer_Part_Number: W25Q32JVZPIQ TR; Datasheet Link: https://componentsearchengine.com//W25Q32JVZPIQ TR.pdf; Height: 0.8mm; Mouser2 Part Number: 454-W25Q32JVZPIQTR; Mouser2 Price/Stock: https://www.mouser.com/Search/Refine.aspx?Keyword=454-W25Q32JVZPIQTR
footprint SON127P600X500X80-9N-D
pins: 1 ~{CS}, 2 DO_(IO1), 3 ~{WP_(IO2)}, 4 GND, 5 DI_(IO0), 6 CLK, 7 ~{HOLD_OR_}/RESET_(IO3), 8 VCC, 9 EP

## W25Q128JWEIQ
designator IC?
Integrated Circuit; Manufacturer_Name: Winbond; Manufacturer_Part_Number: W25Q128JWEIQ; Datasheet Link: https://www.mouser.com/datasheet/2/949/W25Q128JW_RevB_11042019-1761358.pdf; Height: 0.8mm; Mouser Part Number: 454-W25Q128JWEIQ; Mouser Price/Stock: https://www.mouser.co.uk/ProductDetail/Winbond/W25Q128JWEIQ?qs=PqoDHHvF64%252B7VGysTrW%2FEA%3D%3D; Arrow Part Number: W25Q128JWEIQ; Arrow Price/Stock: https://www.arrow.com/en/products/w25q128jweiq/winbond-electronics?region=nac
footprint SON127P800X600X80-9N-D
pins: 1 ~{CS}, 2 DO_(IO1), 3 ~{WP_(IO2)}, 4 GND, 5 DI_(IO0), 6 CLK, 7 ~{HOLD_OR_}RESET_(IO3), 8 VCC, 9 EP

## WP26DK-S040VA3-R15000
designator J?
Connector; Manufacturer_Name: JAE Electronics; Manufacturer_Part_Number: WP26DK-S040VA3-R15000; Datasheet Link: https://www.jae.com/direct/topics/topics_file_download/topics_id=94908&ext_no=06&index=0&_lang=en&v=2020072816335417378909; Height: 0.6mm; Mouser Part Number: 656-WP26DKS040R15000; Mouser Price/Stock: https://www.mouser.co.uk/ProductDetail/JAE-Electronics/WP26DK-S040VA3-R15000?qs=W%2FMpXkg%252BdQ4slve6K3YKJQ%3D%3D
footprint WP26DKS040VA3R15000
pins: 1, 2, 3, 4, 5, 6, 7, 8, 9, 10, 11, 12, 13, 14, 15, 16, 17, 18, 19, 20, 21, 22, 23, 24, 25, 26, 27, 28, 29, 30, 31, 32, 33, 34, 35, 36, 37, 38, 39, 40, MP1, MP2, MP3, MP4, MP5, MP6

## ZLDO1117G50TA
designator IC?
Integrated Circuit; Manufacturer_Name: Diodes Inc.; Manufacturer_Part_Number: ZLDO1117G50TA; Datasheet Link: https://datasheet.datasheetarchive.com/originals/distributors/Datasheets-DIO/DSADIO2000767.pdf; Height: 1.8mm
footprint SOT230P700X180-4N
pins: 1 ADJ_(GND), 2 VOUT_1, 3 VIN, 4 VOUT_2